# Altium footprint library Common.PcbLib: 39 footprints (part 3 of 3)
Each footprint in its own frame and in the unit in brackets; x right, y up, seen from the top. Pads: shape width x height; smd on the part's side, far side on the other; paste and mask are expansions set on the pad; w line width, h text height; cw(c..) or ccw(c..) is an arc to the next point about the centre after c.
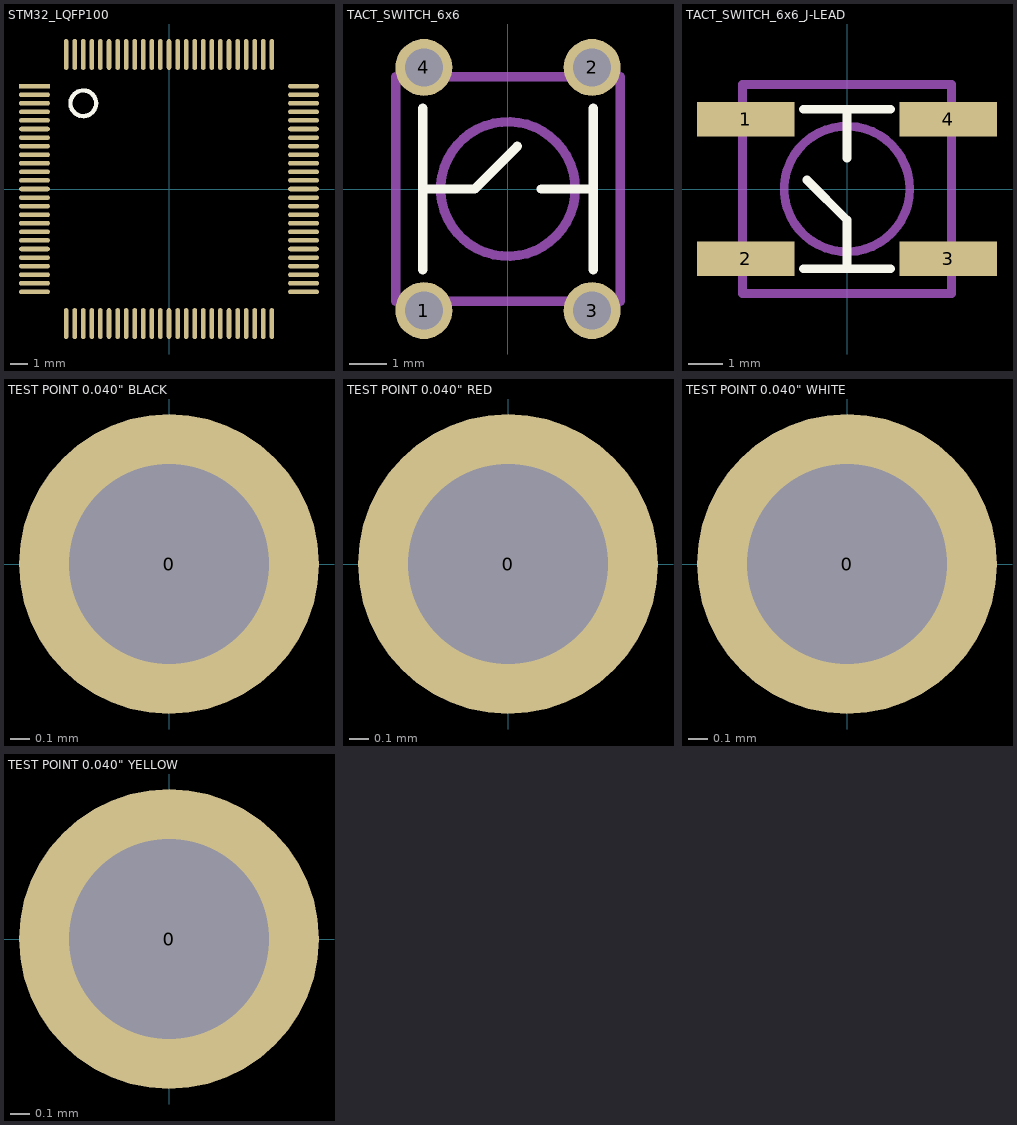
[diagram p2: the footprints below, top view; thin cyan lines are the x and y axes]

## STM32_LQFP100 [mm]
pads (100):
  rect 1.8x0.27 smd: 1(-7.85,6)
  oval 1.8x0.27 smd: 2(-7.85,5.5) 3(-7.85,5) 4(-7.85,4.5) 5(-7.85,4) 6(-7.85,3.5) 7(-7.85,3) 8(-7.85,2.5) 9(-7.85,2) 10(-7.85,1.5) 11(-7.85,1) 12(-7.85,0.5) 13(-7.85,0) 14(-7.85,-0.5) 15(-7.85,-1) 16(-7.85,-1.5) 17(-7.85,-2) 18(-7.85,-2.5) 19(-7.85,-3) 20(-7.85,-3.5) 21(-7.85,-4) 22(-7.85,-4.5) 23(-7.85,-5) 24(-7.85,-5.5) 25(-7.85,-6) 51(7.85,-6) 52(7.85,-5.5) 53(7.85,-5) 54(7.85,-4.5) 55(7.85,-4) 56(7.85,-3.5) 57(7.85,-3) 58(7.85,-2.5) 59(7.85,-2) 60(7.85,-1.5) 61(7.85,-1) 62(7.85,-0.5) 63(7.85,0) 64(7.85,0.5) 65(7.85,1) 66(7.85,1.5) 67(7.85,2) 68(7.85,2.5) 69(7.85,3) 70(7.85,3.5) 71(7.85,4) 72(7.85,4.5) 73(7.85,5) 74(7.85,5.5) 75(7.85,6)
  oval 0.27x1.8 smd: 26(-6,-7.85) 27(-5.5,-7.85) 28(-5,-7.85) 29(-4.5,-7.85) 30(-4,-7.85) 31(-3.5,-7.85) 32(-3,-7.85) 33(-2.5,-7.85) 34(-2,-7.85) 35(-1.5,-7.85) 36(-1,-7.85) 37(-0.5,-7.85) 38(0,-7.85) 39(0.5,-7.85) 40(1,-7.85) 41(1.5,-7.85) 42(2,-7.85) 43(2.5,-7.85) 44(3,-7.85) 45(3.5,-7.85) 46(4,-7.85) 47(4.5,-7.85) 48(5,-7.85) 49(5.5,-7.85) 50(6,-7.85) 76(6,7.85) 77(5.5,7.85) 78(5,7.85) 79(4.5,7.85) 80(4,7.85) 81(3.5,7.85) 82(3,7.85) 83(2.5,7.85) 84(2,7.85) 85(1.5,7.85) 86(1,7.85) 87(0.5,7.85) 88(0,7.85) 89(-0.5,7.85) 90(-1,7.85) 91(-1.5,7.85) 92(-2,7.85) 93(-2.5,7.85) 94(-3,7.85) 95(-3.5,7.85) 96(-4,7.85) 97(-4.5,7.85) 98(-5,7.85) 99(-5.5,7.85) 100(-6,7.85)
Top Overlay:
  circle w0.254: c-5,5 r0.75
3D body "User Library-LQFP100.step": height 1.6, standoff 0, extent -8,-8 8,8

## TACT_SWITCH_6x6 [mil]
pads (4):
  round 60 hole 40: 1(-88.55,-127.92) 2(88.61,127.98) 3(88.61,-127.92) 4(-88.55,127.98)
Top Overlay:
  lines w10: -89.97,-84.97 -89.97,85.03 ; -89.97,0.03 -34.97,0.03 10.03,45.03 ; 35.03,0.03 90.03,0.03 ; 90.03,-84.97 90.03,85.03
Mechanical 13:
  circle w10: c0.03,0.03 r70.87
  lines w10: -118.08,-118.08 -118.08,118.14 118.14,118.14 118.14,-118.08 -118.08,-118.08
3D body "6mm_tact_switch.stp": height 169, standoff -25, extent -117.55,-127.92 118.45,127.47

## TACT_SWITCH_6x6_J-LEAD [mm] "SWITCH TACTILE SPST-NO"
pads (4):
  rect 2.8x1 smd: 1(-2.9,2) 2(-2.9,-2) 3(2.9,-2) 4(2.9,2)
Top Overlay:
  lines w0.254: -1.25,-2.285 1.25,-2.285 ; -1.25,2.287 1.25,2.287 ; -1.144,0.255 -0.001,-0.888 -0.001,-2.285 ; -0.001,0.89 -0.001,2.287
Mechanical 13:
  circle w0.254: c-0.001,0.001 r1.8
  lines w0.254: -3.001,-2.999 -3.001,3.001 2.999,3.001 2.999,-2.999 -3.001,-2.999
3D body "User Library-KSC241J.STEP": height 3.48, standoff -0.02, extent -3.4,-3.1 3.4,3.1

## TEST POINT 0.040" BLACK [mil]
pads (1):
  round 60 hole 40: 0(0,0)
3D body "User Library-TEST POINT BLK Keystone 5011.STEP": height 319.95, standoff -121.94, extent -62.49,-62.49 62.51,62.51

## TEST POINT 0.040" RED [mil]
pads (1):
  round 60 hole 40: 0(0,0)
3D body "User Library-TEST POINT RED Keystone 5010.STEP": height 319.95, standoff -121.94, extent -62.49,-62.5 62.51,62.5

## TEST POINT 0.040" WHITE [mil]
pads (1):
  round 60 hole 40: 0(0,0)
3D body "User Library-TEST POINT WHT Keystone 5012.STEP": height 319.95, standoff -121.94, extent -62.49,-62.5 62.51,62.5

## TEST POINT 0.040" YELLOW [mil]
pads (1):
  round 60 hole 40: 0(0,0)
3D body "User Library-TEST POINT YEL Keystone 5014.STEP": height 319.95, standoff -121.94, extent -62.49,-62.5 62.51,62.5